# Altium footprint library PCB - CONNECTOR - MOLEX - MOLEX 1053131104.PcbLib: 1 footprints
Each footprint in its own frame and in the unit in brackets; x right, y up, seen from the top. Pads: shape width x height; smd on the part's side, far side on the other; paste and mask are expansions set on the pad; w line width, h text height; cw(c..) or ccw(c..) is an arc to the next point about the centre after c.
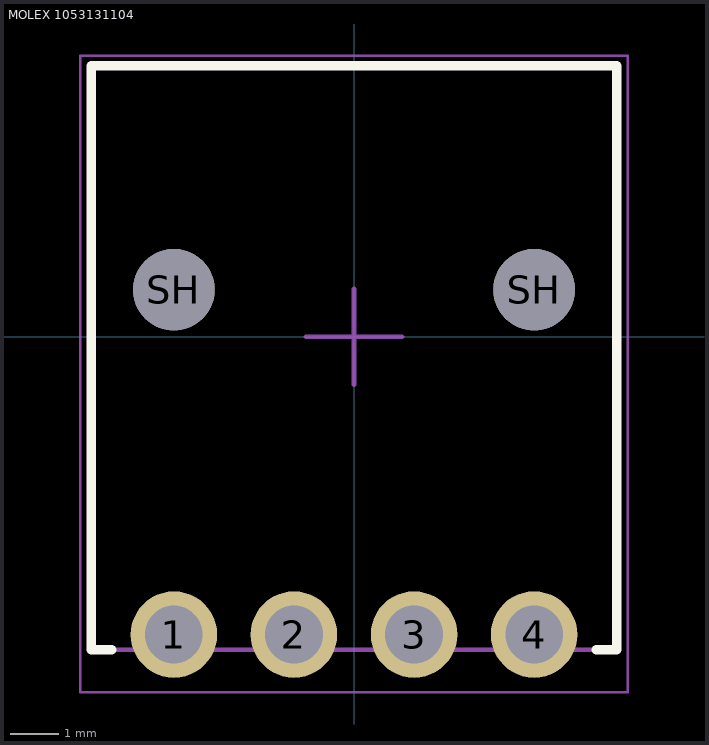
[diagram p0: the footprint, top view; thin cyan lines are the x and y axes]

## MOLEX 1053131104 [mm] "Connector Header Through Hole, Right Angle 4 position, 2mm Pitch, 10.94x8.64 mm Body"
height 6.64
pads (6):
  round 1.8 hole 1.2: 1(-3.75,-6.2) 2(-1.25,-6.2) 3(1.25,-6.2) 4(3.75,-6.2)
  round 1.7 hole 1.7: SH(-3.75,0.98) SH(3.75,0.98)
Top Overlay:
  lines w0.2: -5.05,-6.517 -5.47,-6.517 -5.47,5.64 5.47,5.64 5.47,-6.517 5.05,-6.517
Mechanical 1:
  lines w0.1: -5.47,-6.517 -5.47,5.64 5.47,5.64 5.47,-6.517 -5.47,-6.517
Mechanical 15 (Mech15):
  lines w0.05: -5.7,-7.4 -5.7,5.85 5.7,5.85 5.7,-7.4 -5.7,-7.4
  lines w0.1: -1,0 0,0 ; 0,-1 0,0 ; 0,1 0,0 ; 1,0 0,0
3D body: height 6.64, standoff -3.2, extent -5.47,-6.517 5.47,5.64